# Altium footprint library lianchen_lib.PcbLib: 233 footprints (part 11 of 15)
Each footprint in its own frame and in the unit in brackets; x right, y up, seen from the top. Pads: shape width x height; smd on the part's side, far side on the other; paste and mask are expansions set on the pad; w line width, h text height; cw(c..) or ccw(c..) is an arc to the next point about the centre after c.
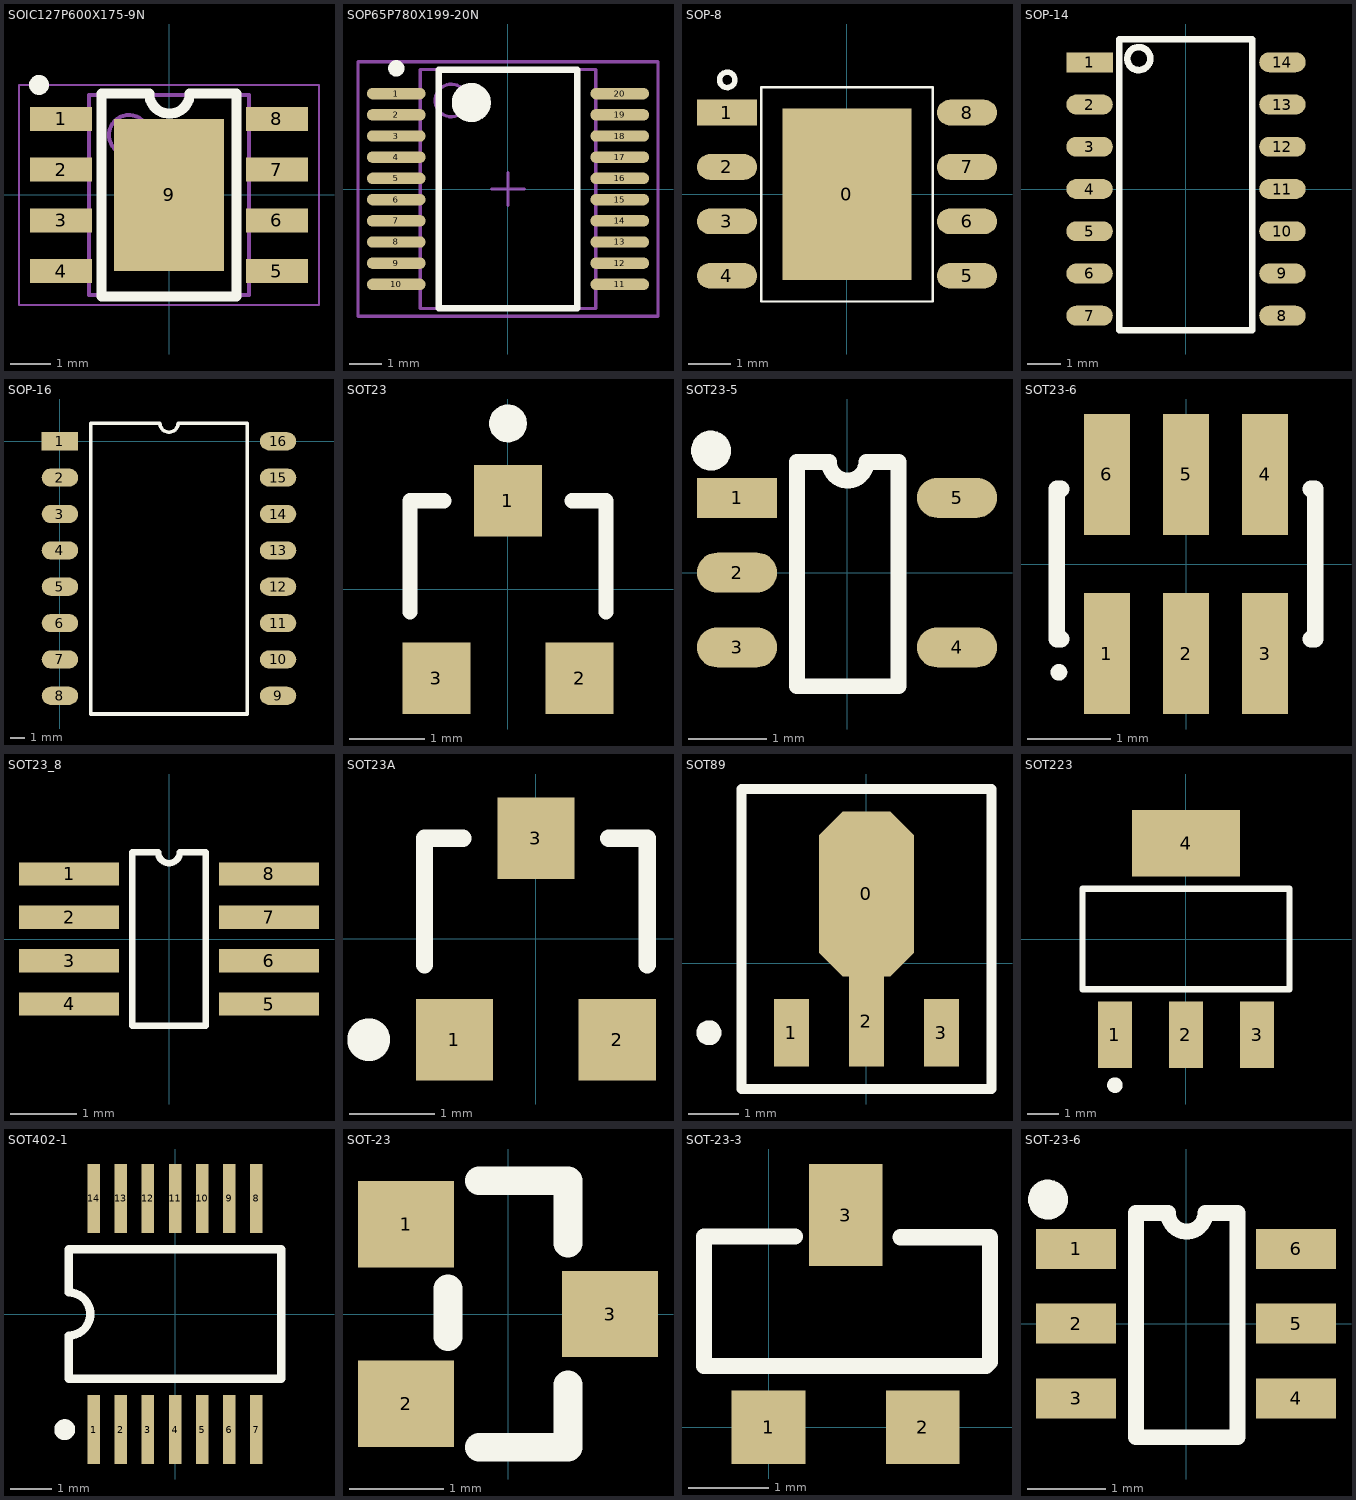
[diagram p10: the footprints below, top view; thin cyan lines are the x and y axes]

## SOIC127P600X175-9N [mm]
height 0.051
pads (9):
  rect 1.55x0.6 smd: 1(-2.7,1.905) 2(-2.7,0.635) 3(-2.7,-0.635) 4(-2.7,-1.905) 5(2.7,-1.905) 6(2.7,-0.635) 7(2.7,0.635) 8(2.7,1.905)
  rect 2.75x3.8 smd paste-3.81: 9(0,0)
Top Overlay:
  circle w0.25: c-3.25,2.75 r0.125
  lines w0.254: -1.689,-2.54 -1.689,2.54 -0.495,2.54 ccw(c0.013,2.54) 0.521,2.54 1.689,2.54 1.689,-2.54 -1.689,-2.54
Top Paste:
  region: -0.825,1.14 0.825,1.14 0.825,-1.14 -0.825,-1.14
Mechanical 15:
  circle w0.1: c-1,1.5 r0.5
  lines w0.1: -2,-2.5 -2,2.5 2,2.5 2,-2.5 -2,-2.5
  text "1" at 0.45,-0.164 h0.75
Mechanical 16:
  lines w0.001: -2,-2.5 -2,2.5 2,2.5 2,-2.5 -2,-2.5
  lines w0.05: -0.5,0 0.5,0 ; 0,-0.5 0,0.5 ; -3.75,-2.75 -3.75,2.75 3.75,2.75 3.75,-2.75 -3.75,-2.75
3D body "SW3DPS-SO-8 (PIC12FXXX)-DEFAULT.STEP": height 1.55, standoff -0.05, extent -2.995,-2.438 2.995,2.462

## SOP65P780X199-20N [mm] "SOP, 20-Leads, Body 7.3x5.4mm (max), Pitch 0.65mm, IPC Medium Density"
height 1.99
pads (20):
  oval 1.8x0.35 smd: 1(-3.425,2.925) 2(-3.425,2.275) 3(-3.425,1.625) 4(-3.425,0.975) 5(-3.425,0.325) 6(-3.425,-0.325) 7(-3.425,-0.975) 8(-3.425,-1.625) 9(-3.425,-2.275) 10(-3.425,-2.925) 11(3.425,-2.925) 12(3.425,-2.275) 13(3.425,-1.625) 14(3.425,-0.975) 15(3.425,-0.325) 16(3.425,0.325) 17(3.425,0.975) 18(3.425,1.625) 19(3.425,2.275) 20(3.425,2.925)
Top Overlay:
  circle w0.25: c-3.425,3.7 r0.125
  circle w0.6: c-1.125,2.65 r0.3
  lines w0.2: -2.125,-3.65 -2.125,3.65 2.125,3.65 2.125,-3.65 -2.125,-3.65
Mechanical 13:
  circle w0.1: c-1.74,2.715 r0.5
  lines w0.1: -2.69,-3.665 -2.69,3.665 2.69,3.665 2.69,-3.665 -2.69,-3.665
Mechanical 15:
  lines w0.1: -0.5,0 0.5,0 ; 0,-0.5 0,0.5 ; -4.6,-3.9 -4.6,3.9 4.6,3.9 4.6,-3.9 -4.6,-3.9
3D body: height 1.99, standoff 0.05, extent -2.69,-3.665 2.69,3.665

## SOP-8 [mm]
height 1.63
pads (9):
  rect 3x4 smd: 0(0,0)
  rect 1.4x0.6 smd: 1(-2.8,1.905)
  oval 1.4x0.6 smd: 2(-2.8,0.635) 3(-2.8,-0.635) 4(-2.8,-1.905) 5(2.8,-1.905) 6(2.8,-0.635) 7(2.8,0.635) 8(2.8,1.905)
Top Overlay:
  circle w0.127: c-2.794,2.667 r0.18
  lines w0.05: -2,-2.505 -2,2.495 2,2.495 2,-2.505 -2,-2.505

## SOP-14 [mm]
height 1.75
pads (14):
  rect 1.4x0.6 smd: 1(-2.9,3.81)
  oval 1.4x0.6 smd: 2(-2.9,2.54) 3(-2.9,1.27) 4(-2.9,0) 5(-2.9,-1.27) 6(-2.9,-2.54) 7(-2.9,-3.81) 8(2.9,-3.81) 9(2.9,-2.54) 10(2.9,-1.27) 11(2.9,0) 12(2.9,1.27) 13(2.9,2.54) 14(2.9,3.81)
Top Overlay:
  circle w0.2: c-1.42,3.92 r0.347
  lines w0.2: 1.99,4.47 1.99,-4.25 -2.01,-4.25 -2.01,4.5 1.99,4.5

## SOP-16 [mm]
height 2
pads (16):
  rect 2.54x1.27 smd: 1(0,0)
  oval 2.54x1.27 smd: 2(0,-2.54) 3(0,-5.08) 4(0,-7.62) 5(0,-10.16) 6(0,-12.7) 7(0,-15.24) 8(0,-17.78) 9(15.24,-17.78) 10(15.24,-15.24) 11(15.24,-12.7) 12(15.24,-10.16) 13(15.24,-7.62) 14(15.24,-5.08) 15(15.24,-2.54) 16(15.24,0)
Top Overlay:
  lines w0.254: 2.159,-19.05 13.081,-19.05 13.081,1.27 8.255,1.27 cw(c7.62,1.27) 6.985,1.27 2.159,1.27 2.159,-19.05

## SOT23 [mm] "SOT-23; 3 Leads; Body 3.1 x 2.5 mm, inc. leads (LxW max), Alternate Lead Configuration"
height 1.1
pads (3):
  rect 0.9x0.95 smd: 1(0,1.175) 2(0.95,-1.175) 3(-0.95,-1.175)
Top Overlay:
  circle w0.25: c0,2.2 r0.125
  lines w0.2: -1.3,-0.3 -1.3,1.175 -0.85,1.175 ; 0.85,1.175 1.3,1.175 1.3,-0.3

## SOT23-5 [mil]
height 57.09
pads (5):
  rect 40x20 smd: 1(-55,37.4)
  oval 40x20 smd: 2(-55,0) 3(-55,-37.4) 4(55,-37.4) 5(55,37.4)
Top Overlay:
  circle w10: c-68,61 r5
  lines w7.87: -25,55.4 -25,-56.8 25.7,-56.8 25.7,55.4 ; -9,55.4 ccw(c0.35,55.4) 9.7,55.4
  lines w8: -25,55.4 -9,55.4 ; 9.7,55.4 25.7,55.4
3D body "User Library-SOT23-5.STEP": height 42.79, standoff -0.51, extent -55.16,-57.06 55.09,57.09

## SOT23-6 [mm] "SOT-23/SC-74A; 5 Leads; Body 3.1 x 3 mm, inc. leads (LxW max)"
height 1.45
pads (6):
  rect 0.55x1.45 smd: 1(-0.95,-1.075) 2(0,-1.075) 3(0.95,-1.075) 4(0.95,1.075) 5(0,1.075) 6(-0.95,1.075)
Top Overlay:
  circle w0.1: c-1.525,-1.3 r0.05
  lines w0.2: -1.5,-0.9 -1.55,-0.9 -1.55,0.9 -1.5,0.9 ; 1.5,-0.9 1.55,-0.9 1.55,0.9 1.5,0.9

## SOT23_8 [mm]
pads (8):
  rect 1.5x0.35 smd: 1(-1.5,0.975) 2(-1.5,0.325) 3(-1.5,-0.325) 4(-1.5,-0.975) 5(1.5,-0.975) 6(1.5,-0.325) 7(1.5,0.325) 8(1.5,0.975)
Top Overlay:
  lines w0.1: -0.553,-1.3 0.553,-1.3 0.553,1.3 0.162,1.3 cw(c0,1.3) -0.162,1.3 -0.553,1.3 -0.553,-1.3

## SOT23A [mm] "SOT-23; 3 Leads; Body 3.0 x 2.5 mm, inc. leads (LxW max)"
height 1.2
pads (3):
  rect 0.9x0.95 smd: 1(-0.95,-1.175) 2(0.95,-1.175) 3(0,1.175)
Top Overlay:
  circle w0.25: c-1.95,-1.175 r0.125
  lines w0.2: -1.3,-0.3 -1.3,1.175 -0.85,1.175 ; 0.85,1.175 1.3,1.175 1.3,-0.3

## SOT89 [mm] "SOT-89; Body 4.6 x 4.25 mm, inc. leads (LxW max)"
height 1.6
pads (4):
  oct 1.9x3.3 smd: 0(0,1.388)
  rect 0.7x1.35 smd: 1(-1.5,-1.388) 3(1.5,-1.388)
  rect 0.7x1.8 smd: 2(0,-1.162)
Top Overlay:
  circle w0.25: c-3.15,-1.388 r0.125
  lines w0.2: -2.5,-2.512 2.5,-2.512 2.5,3.487 -2.5,3.487 -2.5,-2.512

## SOT223 [mm] "SOT-223/SC-73; 4 Leads; Body 6.7 x 7.3 mm, inc. leads (LxW max)"
height 1.8
pads (4):
  rect 1.1x2.15 smd: 1(-2.3,-3.1) 2(0,-3.1) 3(2.3,-3.1)
  rect 3.5x2.15 smd: 4(0,3.1)
Top Overlay:
  circle w0.25: c-2.3,-4.725 r0.125
  lines w0.2: -3.35,-1.625 -3.35,1.625 3.35,1.625 3.35,-1.625 -3.35,-1.625

## SOT402-1 [mm] "Shrink Small Outline; 14 Leads; Body Width 4.4 mm; Pitch 0.65 mm"
height 1.1
pads (14):
  rect 0.3x1.65 smd: 1(-1.95,-2.775) 2(-1.3,-2.775) 3(-0.65,-2.775) 4(0,-2.775) 5(0.65,-2.775) 6(1.3,-2.775) 7(1.95,-2.775) 8(1.95,2.775) 9(1.3,2.775) 10(0.65,2.775) 11(0,2.775) 12(-0.65,2.775) 13(-1.3,2.775) 14(-1.95,2.775)
Top Overlay:
  circle w0.25: c-2.65,-2.775 r0.125
  lines w0.2: -2.55,-1.55 2.55,-1.55 2.55,1.55 -2.55,1.55 -2.55,0.517 cw(c-2.55,0) -2.55,-0.517 -2.55,-1.55

## SOT-23 [mil]
height 43.31
pads (3):
  rect 40x36 smd: 1(-42.5,37.4) 2(-42.5,-37.4) 3(42.5,0)
Top Overlay:
  lines w12: -25,-9.5 -25,10.5 ; -12,-55.5 25,-55.5 25,-29.5 ; -12,55.5 25,55.5 25,29.5
3D body "sot23-3.STEP": height 39.37, standoff -0.79, extent -47,-56.98 50.48,57.98

## SOT-23-3 [mm]
height 1.45
pads (3):
  rect 0.915x0.915 smd: 1(0,0) 2(1.915,0)
  rect 0.915x1.27 smd: 3(0.958,2.635)
Top Overlay:
  lines w0.2: 0.33,2.37 -0.8,2.37 -0.8,0.76 2.7,0.76 2.75,0.81 2.75,2.35 ; 1.64,2.36 2.75,2.36

## SOT-23-6 [mil]
height 57.09
pads (6):
  rect 40x20 smd: 1(-55,37.4) 2(-55,0) 3(-55,-37.4) 4(55,-37.4) 5(55,0) 6(55,37.4)
Top Overlay:
  circle w10: c-69,62 r5
  lines w7.87: -25,55.4 -25,-56.8 25.7,-56.8 25.7,55.4 ; -9,55.4 ccw(c0.35,55.4) 9.7,55.4
  lines w8: -25,55.4 -9,55.4 ; 9.7,55.4 25.7,55.4